# EAGLE library part TPS54200 (library balto)
TPS54200, TPS54201 4.5-V to 28-V Input Voltage, 1.5-A Output Current, Synchronous Buck Mono-Color or IR LED Driver http://www.ti.com/lit/ds/symlink/tps54201.pdf
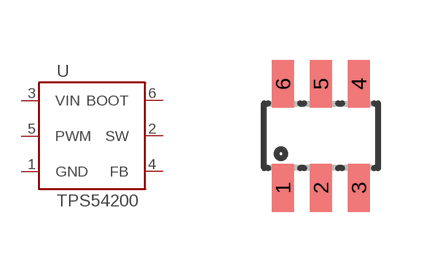
[diagram p54: symbol with the pads of SOT23-6L; footprint SOT23-6L]

Designator prefix U

## TPS54200  [SOT23-6L]
1  GND
2  SW
3  VIN
4  FB
5  PWM
6  BOOT

## Footprint SOT23-6L (pad centres in mm)
Small Outline Transistor
smd 0.55 x 1.2: 1 -0.95,-1.3; 2 0,-1.3; 3 0.95,-1.3; 4 0.95,1.3; 5 0,1.3; 6 -0.95,1.3